# Altium schematic symbol library RGB_Lib.SchLib: 1 symbol
Pins are listed as number, name and electrical type; pins without a type are passive.

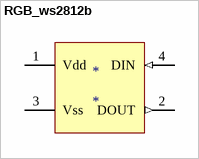
[diagram p0: symbol RGB_ws2812b]

## RGB_ws2812b
designator *
footprint ws2812b (RGB diode with integrated driver)
pins: 1 Vdd (power), 2 DOUT (out), 3 Vss (power), 4 DIN (in)